# EAGLE library part FABO-BEACON (library FaBo-Template)
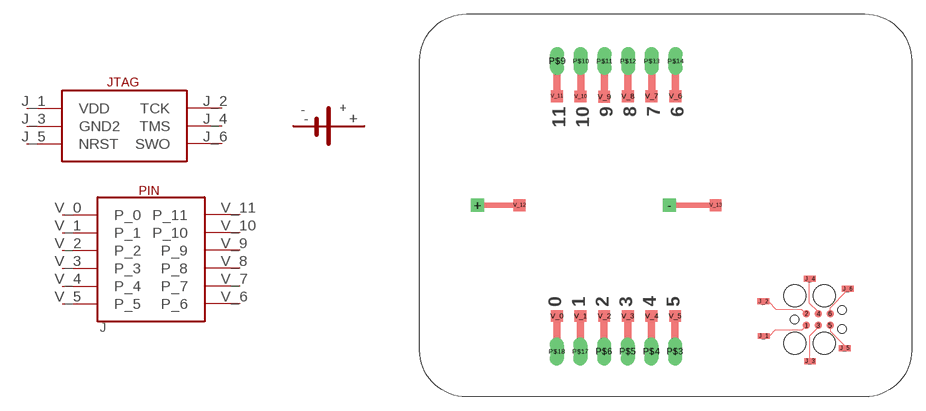
[diagram p6: symbol with the pads of FABO-BEACON; footprint FABO-BEACON]

Designator prefix J

## FABO-BEACON  [FABO-BEACON]
+  VCC
-  GND
J_1  VDD
J_2  TCK
J_3  GND2
J_4  TMS
J_5  NRST
J_6  SWO
V_0  P_0
V_1  P_1
V_2  P_2
V_3  P_3
V_4  P_4
V_5  P_5
V_6  P_6
V_7  P_7
V_8  P_8
V_9  P_9
V_10  P_10
V_11  P_11

## Footprint FABO-BEACON (pad centres in mm)
smd 0.787 x 0.787: 1 17.17,-12.878; 2 17.17,-11.608; 3 18.44,-12.878; 4 18.44,-11.608; 5 19.71,-12.878; 6 19.71,-11.608
drill 0.9 square: + -18.14,0; - 2.46,0
smd 1.27 x 0.635: J_1 12.584,-14.009; J_2 12.555,-10.3; J_3 17.56,-16.701; J_4 17.535,-7.887; J_5 21.293,-15.304; J_6 21.602,-8.954
drill 1 pad 1.422 long: P$3 3.057,-15.678; P$4 0.517,-15.678; P$5 -2.023,-15.678; P$6 -4.563,-15.678; P$9 -9.591,15.478; P$10 -7.051,15.478; P$11 -4.511,15.478; P$12 -1.971,15.478; P$13 0.569,15.478; P$14 3.109,15.478; P$17 -7.103,-15.678; P$18 -9.643,-15.678
smd 1.27 x 1.27: V_0 -9.63,-11.868; V_1 -7.09,-11.868; V_2 -4.55,-11.868; V_3 -2.01,-11.868; V_4 0.53,-11.868; V_5 3.07,-11.868; V_6 3.095,11.729; V_7 0.53,11.729; V_8 -2.01,11.703; V_9 -4.55,11.652; V_10 -7.09,11.678; V_11 -9.63,11.729; V_12 -13.643,0.019; V_13 7.413,0.019
hole 0.889 at 15.9,-12.243
hole 0.889 at 20.98,-13.259
hole 0.889 at 20.98,-11.227
hole 2.375 at 15.9,-9.703
hole 2.375 at 15.9,-14.783
hole 2.375 at 19.075,-14.783
hole 2.375 at 19.075,-9.703